# Altium schematic symbol library Moduls.SchLib: 3 symbols
Pins are listed as number, name and electrical type; pins without a type are passive.

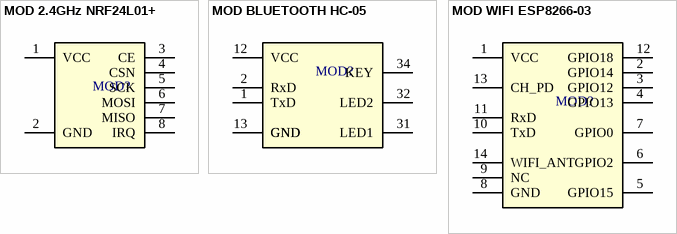
[diagram p0: symbols MOD 2.4GHz NRF24L01+ to MOD WIFI ESP8266-03]

## MOD 2.4GHz NRF24L01+
designator MOD?  (value not drawn)
2.4GHz MODULE, 3V3, SMD; OrderCode: NRF24L01+; ComponentLink1Description: Datasheet; ComponentLink2Description: Ebay; ComponentLink1URL: https://github.com/liparrok/Altium/blob/master/Libraries/Datasheet/nRF24L01.pdf; ComponentLink2URL: http://www.ebay.com/itm/Mini-NRF24L01-SMD-1-27MM-wireless-transceiver-module-Small-Size-/400489040899?hash=item5d3f01cc03:g:OS8AAMXQaOVRk6PR; Other: *; Type: NRF24L01+; Value: *; ComponentLink3Description: WebPage; ComponentLink3URL: http://www.sunrom.com/p/rf-module-2-4ghz-nrf24l01-smd
pins: 1 VCC, 2 GND, 3 CE, 4 CSN, 5 SCK, 6 MOSI, 7 MISO, 8 IRQ

## MOD BLUETOOTH HC-05
designator MOD?  (value not drawn)
BLUETOOTH MODULE, 3V3, SMD; OrderCode: HC-05; ComponentLink1Description: Datasheet; ComponentLink2Description: Ebay; ComponentLink2URL: http://www.ebay.com/itm/30ft-Wireless-Bluetooth-RF-Transceiver-Module-serial-RS232-TTL-HC-05-for-arduino-/180957186752?hash=item2a21e38ac0:g:y28AAOxyrxZRyXj4; Other: *; Type: HC-05; Value: *; ComponentLink3Description: WebPage; ComponentLink3URL: http://wiki.pinguino.cc/index.php/SPP_Bluetooth_Modules#HC-05.2C_HC-06_Hardware
pins: 1 TxD, 2 RxD, 12 VCC, 13 GND, 21 GND, 22 GND, 31 LED1, 32 LED2, 34 KEY

## MOD WIFI ESP8266-03
designator MOD?  (value not drawn)
WIFI MODULE, 3V3, SMD; OrderCode: ESP8266-03; ComponentLink1Description: Datasheet; ComponentLink2Description: Ebay; ComponentLink1URL: https://github.com/liparrok/Altium/blob/master/Libraries/Datasheet/ESP8266_Specifications.pdf; ComponentLink2URL: http://www.ebay.com/itm/ESP8266-03-Serial-ESP-03-WIFI-Module-Wireless-Transceiver-Module-Send-Receiver-/271643376715?hash=item3f3f34fc4b:g:wtcAAOSwr81UR5Jp; Other: *; Type: ESP8266; Value: *; ComponentLink3Description: WebPage; ComponentLink3URL: http://www.esp8266.com/wiki/doku.php?id=esp8266-module-family#esp-03; ComponentLink4Description: BootMode; ComponentLink4URL: https://github.com/esp8266/esp8266-wiki/wiki/Boot-Process; ComponentLink1Description: *
pins: 1 VCC, 2 GPIO14, 3 GPIO12, 4 GPIO13, 5 GPIO15, 6 GPIO2, 7 GPIO0, 8 GND, 9 NC, 10 TxD, 11 RxD, 12 GPIO18, 13 CH_PD, 14 WIFI_ANT